# EAGLE library part CHARGER (library EL_POTENCIA_LIBRERIA_VES2018)
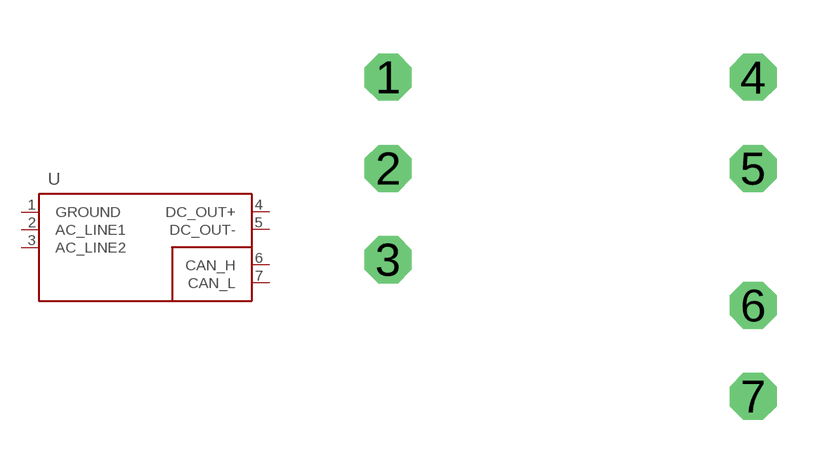
[diagram p5: symbol with the pads of CHARGER; footprint CHARGER]

Designator prefix -

## CHARGER  [CHARGER]
1  GROUND
2  AC_LINE1
3  AC_LINE2
4  DC_OUT+
5  DC_OUT-
6  CAN_H
7  CAN_L

## Footprint CHARGER (pad centres in mm)
drill 0.8 octagon: 1 -3.81,3.81; 2 -3.81,1.27; 3 -3.81,-1.27; 4 6.35,3.81; 5 6.35,1.27; 6 6.35,-2.54; 7 6.35,-5.08